# Altium schematic symbol library Switch SPST_mom.Schlib: 1 symbol
Pins are listed as number, name and electrical type; pins without a type are passive.

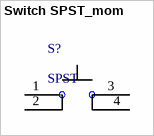
[diagram p0: symbol Switch SPST_mom]

## Switch SPST_mom
designator S?, comment SPST
Switch, SPST, pushbutton; 4 Manufacturer: C&K Components; 5 Manufacturer P/N: PTS645SK50SMTRLFS; 2 Description: SPST-NO; 3 Footprint: PTS645SMT; 1 Type: Switch, Pushbutton; ComponentLink1Description: Manufacturer Link; ComponentLink1URL: http://www.ck-components.com/; ComponentLink2Description: Datasheet; ComponentLink2URL: http://www.ck-components.com/index.php?module=media&action=Display&cmpref=14409&lang=en&width=&height=&format=&alt=; ComponentLink3Description: Supplier Link; ComponentLink3URL: http://search.digikey.com/scripts/DkSearch/dksus.dll?Detail?name=CKN9087CT-ND; Cost: $0.23
footprint PTS645SMT
pins: 1 0, 2 1, 3, 4